# EAGLE library part TPS55340 (library Public)
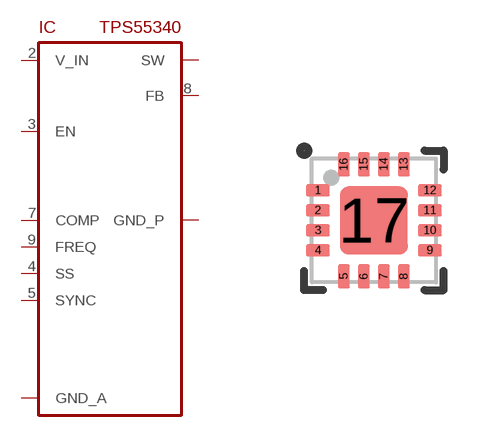
[diagram p160: symbol with the pads of QFN16-0.5; footprint QFN16-0.5]

Designator prefix IC

## TPS55340  [QFN16-0.5]
1  SW
2  V_IN
3  EN
4  SS
5  SYNC
6  GND_A
7  COMP
8  FB
9  FREQ
10  GND_A
11  GND_P
12  GND_P
13  GND_P
14  GND_A
15  SW
16  SW
17  GND_A

## Footprint QFN16-0.5 (pad centres in mm)
smd 0.6 x 0.3: 1 -1.4,0.75; 2 -1.4,0.25; 3 -1.4,-0.25; 4 -1.4,-0.75; 9 1.4,-0.75; 10 1.4,-0.25; 11 1.4,0.25; 12 1.4,0.75
smd 0.3 x 0.6: 5 -0.75,-1.4; 6 -0.25,-1.4; 7 0.25,-1.4; 8 0.75,-1.4; 13 0.75,1.4; 14 0.25,1.4; 15 -0.25,1.4; 16 -0.75,1.4
smd 1.7 x 1.7: 17 0,0